# EAGLE library part 645006114822 (library Wuerth_Elektronik_eiCan_Wire_to_Board_Connectors v1.2)
WR-WTB 3.96mm Male Locking Header, 6 Pins
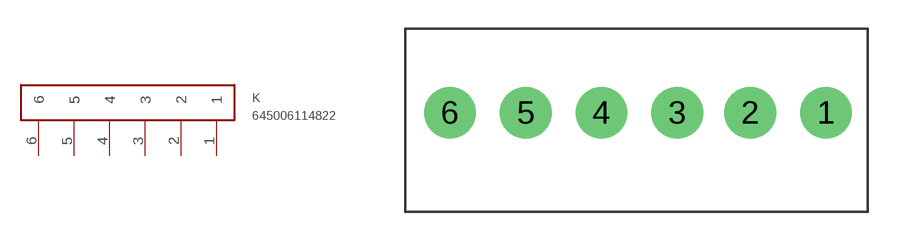
[diagram p0: symbol with the pads of 645006114822; footprint 645006114822]

Designator prefix K

## 645006114822  [645006114822]
1  1
2  2
3  3
4  4
5  5
6  6

## Footprint 645006114822 (pad centres in mm)
WR-WTB 3.96mm Male Locking Header, 6 Pins
drill 1.8 round: 1 1.98,0; 2 -1.98,0; 3 -5.79,0; 4 -9.75,0; 5 -13.71,0; 6 -17.67,0